# Altium footprint library PcbLib1.PcbLib: 3 footprints
Each footprint in its own frame and in the unit in brackets; x right, y up, seen from the top. Pads: shape width x height; smd on the part's side, far side on the other; paste and mask are expansions set on the pad; w line width, h text height; cw(c..) or ccw(c..) is an arc to the next point about the centre after c.
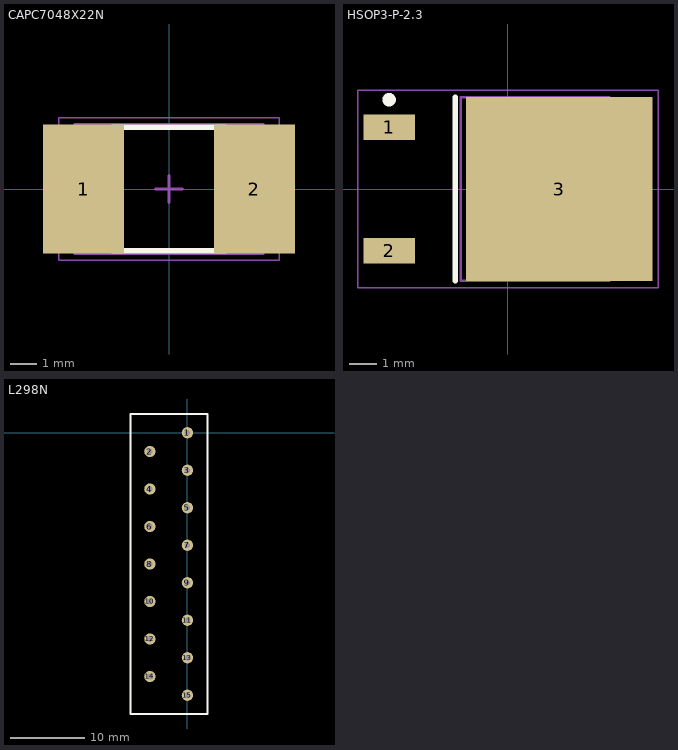
[diagram p0: the footprints below, top view; thin cyan lines are the x and y axes]

## CAPC7048X22N [mm] "Chip Capacitor, 2-Leads, Body 6.80x4.60mm, IPC Medium Density"
height 2.2
pads (2):
  rect 3x4.8 smd: 1(-3.175,0) 2(3.175,0)
Top Overlay:
  lines w0.2: -2.1,-2.3 2.1,-2.3 ; -2.1,2.3 2.1,2.3
Mechanical 13:
  lines w0.1: -3.5,-2.4 -3.5,2.4 3.5,2.4 3.5,-2.4 -3.5,-2.4
Mechanical 15:
  lines w0.05: -4.1,-2.65 -4.1,2.65 4.1,2.65 4.1,-2.65 -4.1,-2.65
  lines w0.1: -0.5,0 0.5,0 ; 0,-0.5 0,0.5
3D body: height 0.25, standoff 0, extent -2.85,-2.4 2.85,2.4
3D body: height 2.2, standoff 0, extent -3.5,-2.4 -2.85,2.4
3D body: height 2.2, standoff 0, extent 2.85,-2.4 3.5,2.4

## HSOP3-P-2.3 [mm] "D-PAK, 3-Pads, Body 5.85x6.76mm (max), IPC Medium Density"
height 2.5
pads (3):
  rect 1.9x0.95 smd: 1(-4.4,2.28) 2(-4.4,-2.28)
  rect 6.9x6.8 smd: 3(1.9,0)
Top Overlay:
  circle w0.25: c-4.4,3.305 r0.125
  lines w0.2: -1.95,-3.4 -1.95,3.4
Mechanical 13:
  lines w0.1: -1.75,-3.4 3.75,-3.4 3.75,3.4 -1.75,3.4 -1.75,-3.4
Mechanical 15:
  lines w0.05: -5.55,-3.65 5.55,-3.65 5.55,3.65 -5.55,3.65 -5.55,-3.65
  lines w0.1: -0.5,0 0.5,0 ; 0,-0.5 0,0.5
3D body: height 2.5, standoff 0.6, extent -1.75,-3.4 3.75,3.4

## L298N [mil]
pads (15):
  round 60 hole 30: 1(0,0) 2(-200,-100) 3(0,-200) 4(-200,-300) 5(0,-400) 6(-200,-500) 7(0,-600) 8(-200,-700) 9(0,-800) 10(-200,-900) 11(0,-1000) 12(-200,-1100) 13(0,-1200) 14(-200,-1300) 15(0,-1400)
Top Overlay:
  lines w10: -303.75,-1500 -303.75,100 107.84,100 107.84,-1500 -303.75,-1500